# Altium schematic symbol library CN HDR 6POS Molex 43045-0628.Schlib: 1 symbol
Pins are listed as number, name and electrical type; pins without a type are passive.

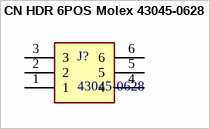
[diagram p0: symbol CN HDR 6POS Molex 43045-0628]

## CN HDR 6POS Molex 43045-0628
designator J?, comment 43045-0628
Molex 43045-0628 6POS Microfit / dual row, Vertical
footprint 430450628 (6 POS VERT MOLEX)
pins: 1, 2, 3, 4, 5, 6